# Altium footprint library 352212RJT.PcbLib: 1 footprints
Each footprint in its own frame and in the unit in brackets; x right, y up, seen from the top. Pads: shape width x height; smd on the part's side, far side on the other; paste and mask are expansions set on the pad; w line width, h text height; cw(c..) or ccw(c..) is an arc to the next point about the centre after c.
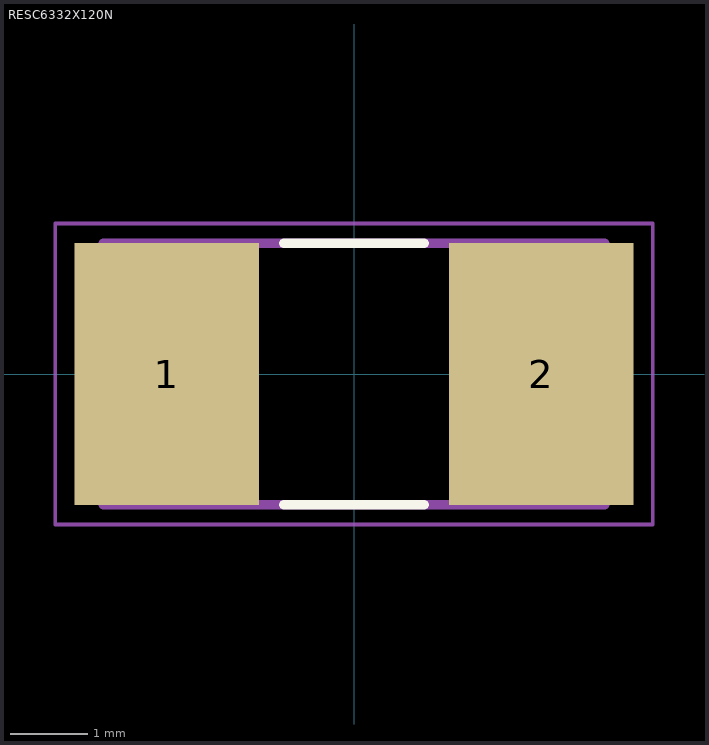
[diagram p0: the footprint, top view; thin cyan lines are the x and y axes]

## RESC6332X120N [mm]
pads (2):
  rect 2.37x3.37 smd: 1(-2.405,0) 2(2.405,0)
Top Overlay:
  lines w0.127: -0.9,-1.68 0.9,-1.68 ; -0.9,1.68 0.9,1.68
Mechanical 13:
  lines w0.127: -3.22,-1.68 -3.22,1.68 3.22,1.68 3.22,-1.68 -3.22,-1.68
Mechanical 15:
  lines w0.05: -3.84,-1.935 -3.84,1.935 3.84,1.935 3.84,-1.935 -3.84,-1.935